# EAGLE library part TXS0108ERGYR (library gametroller)
8-Bit Bidirectional Voltage-Level Translator For Open-Drain And Push-Pull Application 20-VQFN -40 to 85
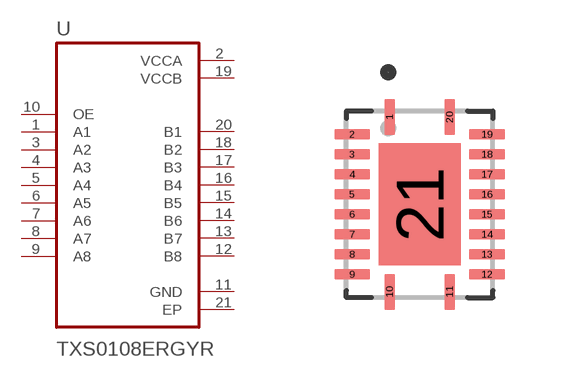
[diagram p9: symbol with the pads of QFN50P450X350X100-21N; footprint QFN50P450X350X100-21N]

Designator prefix U

## TXS0108ERGYR (AVAILABILITY: Unavailable; DESCRIPTION: 8-Bit Bidirectional Voltage-Level Translator For Open-Drain And Push-Pull Application 20-VQFN -40 to 85; MF: Texas Instruments; MP: TXS0108ERGYR; PACKAGE: VQFN-20 Texas Instruments; PRICE: None)  [QFN50P450X350X100-21N]
1  A1
2  VCCA  pwr
3  A2
4  A3
5  A4
6  A5
7  A6
8  A7
9  A8
10  OE  in
11  GND  pwr
12  B8
13  B7
14  B6
15  B5
16  B4
17  B3
18  B2
19  VCCB  pwr
20  B1
21  EP  pwr

## Footprint QFN50P450X350X100-21N (pad centres in mm)
smd 0.26 x 0.9: 1 -0.75,2.185; 10 -0.75,-2.185; 11 0.75,-2.185; 20 0.75,2.185
smd 0.9 x 0.26: 2 -1.685,1.75; 3 -1.685,1.25; 4 -1.685,0.75; 5 -1.685,0.25; 6 -1.685,-0.25; 7 -1.685,-0.75; 8 -1.685,-1.25; 9 -1.685,-1.75; 12 1.685,-1.75; 13 1.685,-1.25; 14 1.685,-0.75; 15 1.685,-0.25; 16 1.685,0.25; 17 1.685,0.75; 18 1.685,1.25; 19 1.685,1.75
smd 2.05 x 3.05: 21 0,0